# EAGLE library part TMS570LS0432_PZ_100 (library version2)
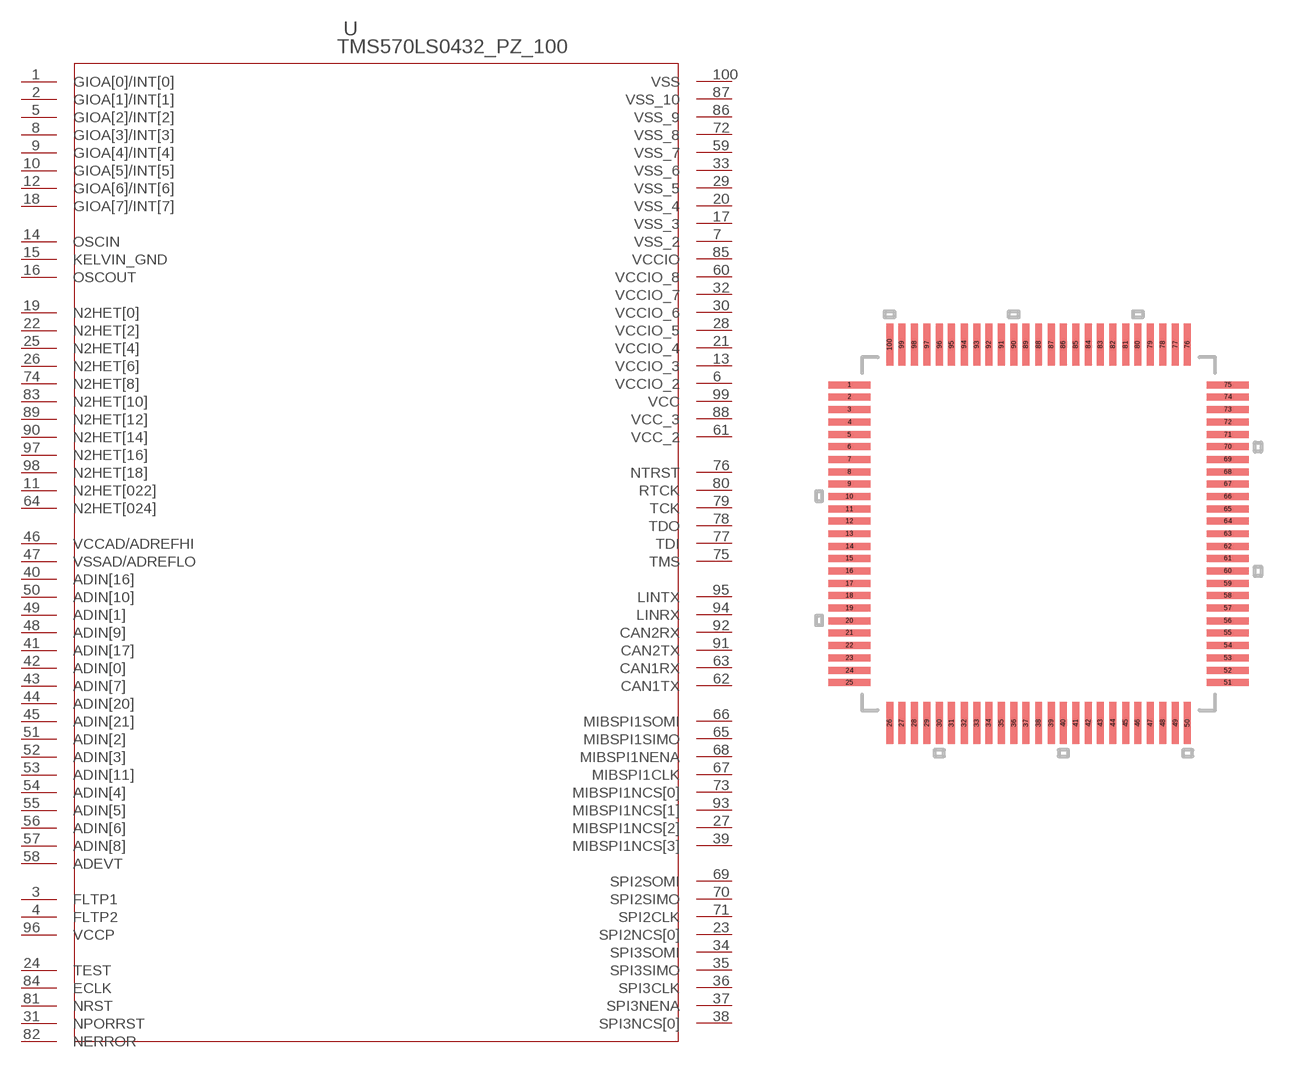
[diagram p0: symbol with the pads of PZ100; footprint PZ100]

Designator prefix U

## TMS570LS0432_PZ_100 (MANUFACTURER_PART_NUMBER: tms570ls0432_pz_100; VENDOR: TEXAS INSTRUMENTS)  [PZ100]
1  GIOA[0]/INT[0]
2  GIOA[1]/INT[1]
3  FLTP1
4  FLTP2
5  GIOA[2]/INT[2]
6  VCCIO_2  pwr
7  VSS_2  pwr
8  GIOA[3]/INT[3]
9  GIOA[4]/INT[4]
10  GIOA[5]/INT[5]
11  N2HET[022]
12  GIOA[6]/INT[6]
13  VCCIO_3  pwr
14  OSCIN  pwr
15  KELVIN_GND
16  OSCOUT
17  VSS_3  pwr
18  GIOA[7]/INT[7]
19  N2HET[0]
20  VSS_4  pwr
21  VCCIO_4  pwr
22  N2HET[2]
23  SPI2NCS[0]
24  TEST
25  N2HET[4]
26  N2HET[6]
27  MIBSPI1NCS[2]
28  VCCIO_5  pwr
29  VSS_5  pwr
30  VCCIO_6  pwr
31  NPORRST
32  VCCIO_7  pwr
33  VSS_6  pwr
34  SPI3SOMI
35  SPI3SIMO
36  SPI3CLK
37  SPI3NENA
38  SPI3NCS[0]
39  MIBSPI1NCS[3]
40  ADIN[16]
41  ADIN[17]
42  ADIN[0]
43  ADIN[7]
44  ADIN[20]
45  ADIN[21]
46  VCCAD/ADREFHI
47  VSSAD/ADREFLO
48  ADIN[9]
49  ADIN[1]
50  ADIN[10]
51  ADIN[2]
52  ADIN[3]
53  ADIN[11]
54  ADIN[4]
55  ADIN[5]
56  ADIN[6]
57  ADIN[8]
58  ADEVT
59  VSS_7  pwr
60  VCCIO_8  pwr
61  VCC_2  pwr
62  CAN1TX
63  CAN1RX
64  N2HET[024]
65  MIBSPI1SIMO
66  MIBSPI1SOMI
67  MIBSPI1CLK
68  MIBSPI1NENA
69  SPI2SOMI
70  SPI2SIMO
71  SPI2CLK
72  VSS_8  pwr
73  MIBSPI1NCS[0]
74  N2HET[8]
75  TMS
76  NTRST
77  TDI
78  TDO
79  TCK
80  RTCK
81  NRST
82  NERROR
83  N2HET[10]
84  ECLK
85  VCCIO  pwr
86  VSS_9  pwr
87  VSS_10  pwr
88  VCC_3  pwr
89  N2HET[12]
90  N2HET[14]
91  CAN2TX
92  CAN2RX
93  MIBSPI1NCS[1]
94  LINRX
95  LINTX
96  VCCP  pwr
97  N2HET[16]
98  N2HET[18]
99  VCC  pwr
100  VSS  pwr

## Footprint PZ100 (pad centres in mm)
smd 1.676 x 0.279: 1 -7.62,5.994; 2 -7.62,5.512; 3 -7.62,5.004; 4 -7.62,4.496; 5 -7.62,3.988; 6 -7.62,3.505; 7 -7.62,2.997; 8 -7.62,2.489; 9 -7.62,2.007; 10 -7.62,1.499; 11 -7.62,0.991; 12 -7.62,0.508; 13 -7.62,0; 14 -7.62,-0.508; 15 -7.62,-0.991; 16 -7.62,-1.499; 17 -7.62,-2.007; 18 -7.62,-2.489; 19 -7.62,-2.997; 20 -7.62,-3.505; 21 -7.62,-3.988; 22 -7.62,-4.496; 23 -7.62,-5.004; 24 -7.62,-5.512; 25 -7.62,-5.994; 51 7.62,-5.994; 52 7.62,-5.512; 53 7.62,-5.004; 54 7.62,-4.496; 55 7.62,-3.988; 56 7.62,-3.505; 57 7.62,-2.997; 58 7.62,-2.489; 59 7.62,-2.007; 60 7.62,-1.499; 61 7.62,-0.991; 62 7.62,-0.508; 63 7.62,0; 64 7.62,0.508; 65 7.62,0.991; 66 7.62,1.499; 67 7.62,2.007; 68 7.62,2.489; 69 7.62,2.997; 70 7.62,3.505; 71 7.62,3.988; 72 7.62,4.496; 73 7.62,5.004; 74 7.62,5.512; 75 7.62,5.994
smd 0.279 x 1.676: 26 -5.994,-7.62; 27 -5.512,-7.62; 28 -5.004,-7.62; 29 -4.496,-7.62; 30 -3.988,-7.62; 31 -3.505,-7.62; 32 -2.997,-7.62; 33 -2.489,-7.62; 34 -2.007,-7.62; 35 -1.499,-7.62; 36 -0.991,-7.62; 37 -0.508,-7.62; 38 0,-7.62; 39 0.508,-7.62; 40 0.991,-7.62; 41 1.499,-7.62; 42 2.007,-7.62; 43 2.489,-7.62; 44 2.997,-7.62; 45 3.505,-7.62; 46 3.988,-7.62; 47 4.496,-7.62; 48 5.004,-7.62; 49 5.512,-7.62; 50 5.994,-7.62; 76 5.994,7.62; 77 5.512,7.62; 78 5.004,7.62; 79 4.496,7.62; 80 3.988,7.62; 81 3.505,7.62; 82 2.997,7.62; 83 2.489,7.62; 84 2.007,7.62; 85 1.499,7.62; 86 0.991,7.62; 87 0.508,7.62; 88 0,7.62; 89 -0.508,7.62; 90 -0.991,7.62; 91 -1.499,7.62; 92 -2.007,7.62; 93 -2.489,7.62; 94 -2.997,7.62; 95 -3.505,7.62; 96 -3.988,7.62; 97 -4.496,7.62; 98 -5.004,7.62; 99 -5.512,7.62; 100 -5.994,7.62